# EAGLE library part TEXAS_INSTRUMENTS-SURGE_PROTECTOR-TVS3301DRBR (library Module_ICs)
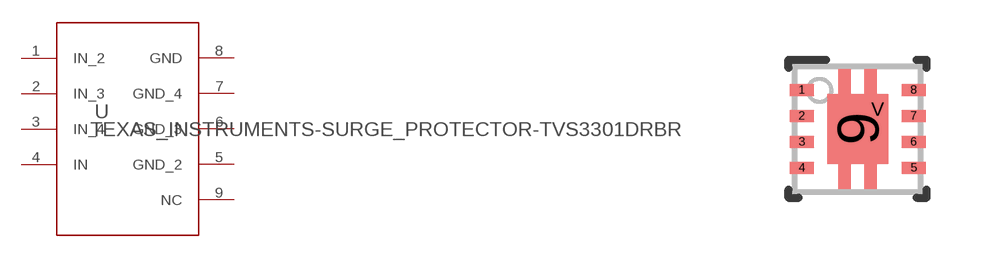
[diagram p43: symbol with the pads of TEXAS_INSTRUMENTS-SURGE_PROTECTOR-TVS3301DRBR; footprint TEXAS_INSTRUMENTS-SURGE_PROTECTOR-TVS3301DRBR]

Designator prefix U

## TEXAS_INSTRUMENTS-SURGE_PROTECTOR-TVS3301DRBR (MANUFACTURER: Texas Instruments; PARTNUMBER: TVS3301DRBR; REFDES: RefDes; TYPE: TYPE; VALUE: Value)  [TEXAS_INSTRUMENTS-SURGE_PROTECTOR-TVS3301DRBR]
1  IN_2  in
2  IN_3  in
3  IN_4  in
4  IN  in
5  GND_2  pwr
6  GND_3  pwr
7  GND_4  pwr
8  GND  pwr
9  NC  pas

## Footprint TEXAS_INSTRUMENTS-SURGE_PROTECTOR-TVS3301DRBR (pad centres in mm)
smd 0.6 x 0.3: 1 -1.4,0.975; 2 -1.4,0.325; 3 -1.4,-0.325; 4 -1.4,-0.975; 5 1.4,-0.975; 6 1.4,-0.325; 7 1.4,0.325; 8 1.4,0.975
smd 1.5 x 1.75: 9 0,0
smd 0.5 x 0.5: V 0.5,0.5